# EAGLE library part 52974-0604 (library Enfora_Module)
Conector Molex 52974-0604 60-pin, SMT, Dual Row, Vertical Stacking: .50MM (.020") Pitch Receptacle Creado por Hernán Alvarez halvarezo@ieee.org
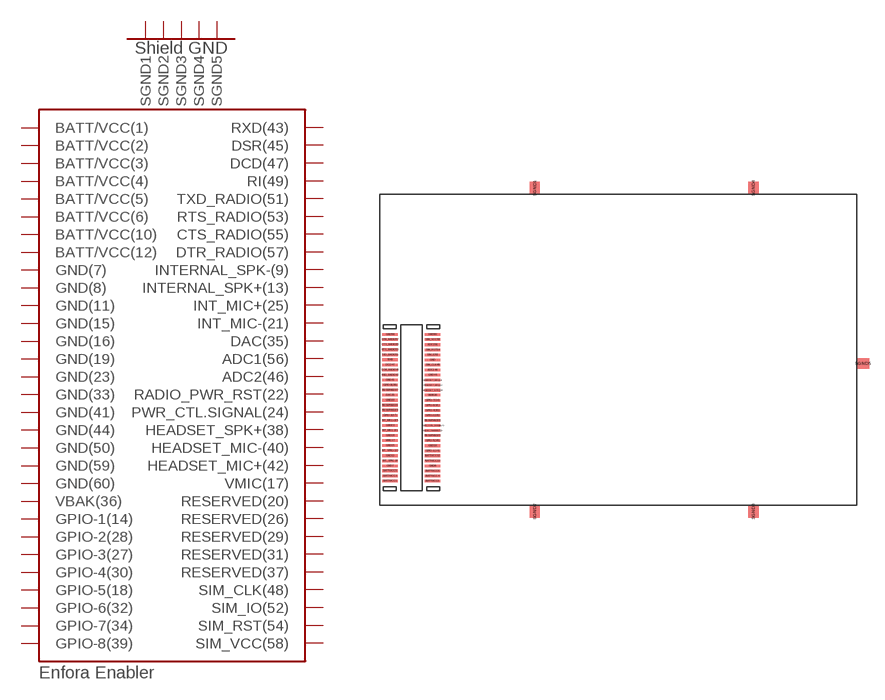
[diagram p0: symbol with the pads of 52974-0604; footprint 52974-0604]

Designator prefix -

## 52974-0604  [52974-0604]
ADC156  ADC1(56)
ADC246  ADC2(46)
BATT/VCC1  BATT/VCC(1)
BATT/VCC2  BATT/VCC(2)
BATT/VCC3  BATT/VCC(3)
BATT/VCC4  BATT/VCC(4)
BATT/VCC5  BATT/VCC(5)
BATT/VCC6  BATT/VCC(6)
BATT/VCC10  BATT/VCC(10)
BATT/VCC12  BATT/VCC(12)
CTS_RADIO55  CTS_RADIO(55)
DAC35  DAC(35)
DCD47  DCD(47)
DSR_RADIO45  DSR(45)
DTR_RADIO57  DTR_RADIO(57)
GND  GND(50)
GND7  GND(7)
GND8  GND(8)
GND11  GND(11)
GND15  GND(15)
GND16  GND(16)
GND19  GND(19)
GND23  GND(23)
GND33  GND(33)
GND41  GND(41)
GND44  GND(44)
GND59  GND(59)
GND60  GND(60)
GPIO-1(14)  GPIO-1(14)
GPIO-2(28)  GPIO-2(28)
GPIO-3(27)  GPIO-3(27)
GPIO-4(30)  GPIO-4(30)
GPIO-5(18)  GPIO-5(18)
GPIO-6(32)  GPIO-6(32)
GPIO-7(34)  GPIO-7(34)
GPIO-8(39)  GPIO-8(39)
HEADSET_MIC(+)42  HEADSET_MIC+(42)
HEADSET_MIC(-)40  HEADSET_MIC-(40)
HEADSET_SPK(+)38  HEADSET_SPK+(38)
INT_MIC(+)25  INT_MIC+(25)
INT_MIC(-)21  INT_MIC-(21)
INT_SPK(+)13  INTERNAL_SPK+(13)
INT_SPK(-)9  INTERNAL_SPK-(9)
PWR_CTRL_SIGNAL24  PWR_CTL.SIGNAL(24)
RADIO_PWR/RST22  RADIO_PWR_RST(22)
RESERVED20  RESERVED(20)
RESERVED26  RESERVED(26)
RESERVED29  RESERVED(29)
RESERVED31  RESERVED(31)
RESERVED37  RESERVED(37)
RI49  RI(49)
RTS_RADIO53  RTS_RADIO(53)
RXD_RADIO43  RXD(43)
SGND1  SGND1
SGND2  SGND2
SGND3  SGND3
SGND4  SGND4
SGND5  SGND5
SIM_CLK48  SIM_CLK(48)
SIM_IO52  SIM_IO(52)
SIM_RST54  SIM_RST(54)
SIM_VCC58  SIM_VCC(58)
TXD_RADIO51  TXD_RADIO(51)
VBAK36  VBAK(36)
VMIC17  VMIC(17)

## Footprint 52974-0604 (pad centres in mm)
Módulo Enfora Enabler II-G Quad-Band GSM/GPRS Radio Modem with SIMholder Creado por Hernán Alvarez halvarezo@ieee.org
smd 1.5 x 0.25: ADC156 2.041,6.086; ADC246 2.041,3.626; BATT/VCC1 -2.079,-7.134; BATT/VCC2 2.041,-7.144; BATT/VCC3 -2.079,-6.654; BATT/VCC4 2.041,-6.664; BATT/VCC5 -2.079,-6.154; BATT/VCC6 2.041,-6.174; BATT/VCC10 2.041,-5.194; BATT/VCC12 2.041,-4.694; CTS_RADIO55 -2.079,6.096; DAC35 -2.079,1.186; DCD47 -2.079,4.136; DSR_RADIO45 -2.079,3.636; DTR_RADIO57 -2.079,6.586; GND 2.041,4.606; GND7 -2.079,-5.674; GND8 2.041,-5.684; GND11 -2.079,-4.694; GND15 -2.079,-3.704; GND16 2.041,-3.724; GND19 -2.079,-2.734; GND23 -2.079,-1.754; GND33 -2.079,0.696; GND41 -2.079,2.656; GND44 2.041,3.146; GND59 -2.079,7.076; GND60 2.041,7.086; GPIO-1(14) 2.041,-4.214; GPIO-2(28) 2.041,-0.784; GPIO-3(27) -2.079,-0.774; GPIO-4(30) 2.041,-0.294; GPIO-5(18) 2.041,-3.234; GPIO-6(32) 2.041,0.196; GPIO-7(34) 2.041,0.686; GPIO-8(39) -2.079,2.166; HEADSET_MIC(+)42 2.041,2.646; HEADSET_MIC(-)40 2.041,2.166; HEADSET_SPK(+)38 2.041,1.666; INT_MIC(+)25 -2.079,-1.264; INT_MIC(-)21 -2.079,-2.234; INT_SPK(+)13 -2.079,-4.194; INT_SPK(-)9 -2.079,-5.184; PWR_CTRL_SIGNAL24 2.041,-1.754; RADIO_PWR/RST22 2.041,-2.254; RESERVED20 2.041,-2.734; RESERVED26 2.041,-1.274; RESERVED29 -2.079,-0.274; RESERVED31 -2.079,0.206; RESERVED37 -2.079,1.676; RI49 -2.079,4.626; RTS_RADIO53 -2.079,5.596; RXD_RADIO43 -2.079,3.136; SIM_CLK48 2.041,4.126; SIM_IO52 2.041,5.106; SIM_RST54 2.041,5.586; SIM_VCC58 2.041,6.586; TXD_RADIO51 -2.079,5.106; VBAK36 2.041,1.186; VMIC17 -2.079,-3.214
smd 1 x 1.2: SGND1 11.97,21.29; SGND2 11.96,-10.12; SGND3 33.19,-10.12; SGND4 33.19,21.29
smd 1.2 x 1: SGND5 43.82,4.26